# Altium schematic symbol library DPST.SchLib: 1 symbol
Pins are listed as number, name and electrical type; pins without a type are passive.

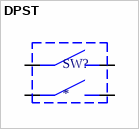
[diagram p0: symbol DPST]

## DPST
designator SW?
pins: 1, 2, 3, 4